# Altium footprint library CN_MSTB_2_5_HC_2-GF-5_08.PcbLib: 1 footprints
Each footprint in its own frame and in the unit in brackets; x right, y up, seen from the top. Pads: shape width x height; smd on the part's side, far side on the other; paste and mask are expansions set on the pad; w line width, h text height; cw(c..) or ccw(c..) is an arc to the next point about the centre after c.
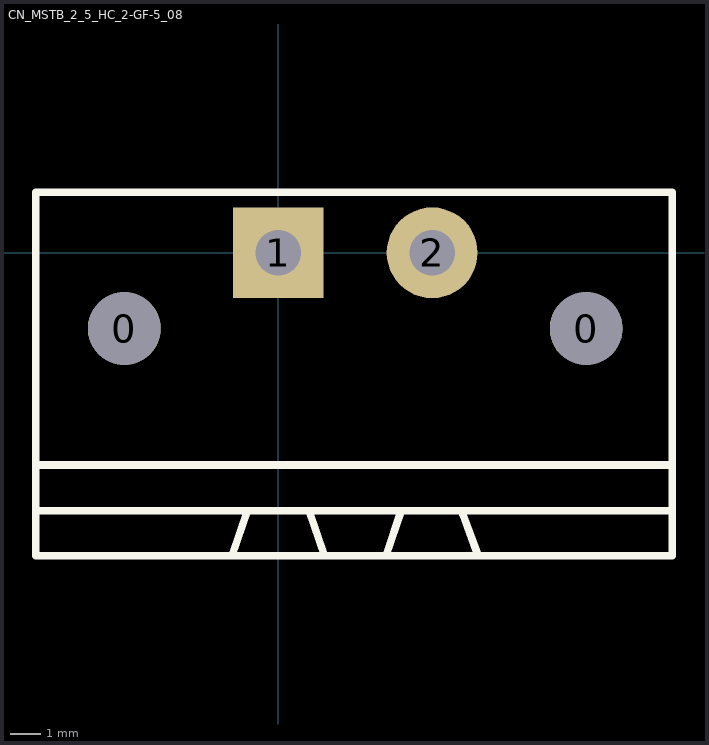
[diagram p0: the footprint, top view; thin cyan lines are the x and y axes]

## CN_MSTB_2_5_HC_2-GF-5_08 [mm] "MSTB 2,5 HC/ 2-GF-5,08"
pads (4):
  round 2.4 hole 2.4: 0(-5.08,-2.5) 0(10.16,-2.5)
  rect 3x3 hole 1.5: 1(0,0)
  round 3 hole 1.5: 2(5.08,0)
Top Overlay:
  lines w0.254: -8,-8.508 13,-8.508 ; -8,-7 13,-7 ; -1.524,-10 -1.016,-8.508 ; 1.016,-8.508 1.524,-10 ; 3.556,-10 4.064,-8.508 ; 6.096,-8.636 6.604,-10 ; -8,-10 13,-10 13,2 -8,2 -8,-10
3D body: height 8.6, standoff -3.5, extent -7.62,-10 12.7,2.002